# Altium schematic symbol library TPS7B8133QDGNRQ1.SchLib: 1 symbol
Pins are listed as number, name and electrical type; pins without a type are passive.

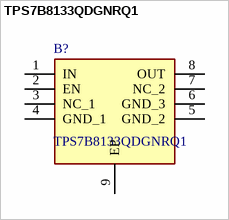
[diagram p0: symbol TPS7B8133QDGNRQ1]

## TPS7B8133QDGNRQ1
designator B?
LDO Voltage Regulators LDO; Manufacturer_Name: Texas Instruments; Geometry.Height: 1.1mm; Manufacturer_Part_Number: TPS7B8133QDGNRQ1; Mouser Part Number: 595-TPS7B8133QDGNRQ1; Mouser Price/Stock: https://www.mouser.co.uk/ProductDetail/Texas-Instruments/TPS7B8133QDGNRQ1?qs=%252B6g0mu59x7IqdAmnBzYlcw%3D%3D; Arrow Part Number: TPS7B8133QDGNRQ1; Arrow Price/Stock: https://www.arrow.com/en/products/tps7b8133qdgnrq1/texas-instruments.html?utm_currency=USD&region=nac; Datasheet Link: https://www.ti.com/lit/gpn/TPS7B81-Q1
footprint SOP65P490X110-9N
pins: 1 IN, 2 EN, 3 NC_1, 4 GND_1, 5 GND_2, 6 GND_3, 7 NC_2, 8 OUT, 9 EP